# EAGLE library part STM32F070F6P6 (library Kunosheru)
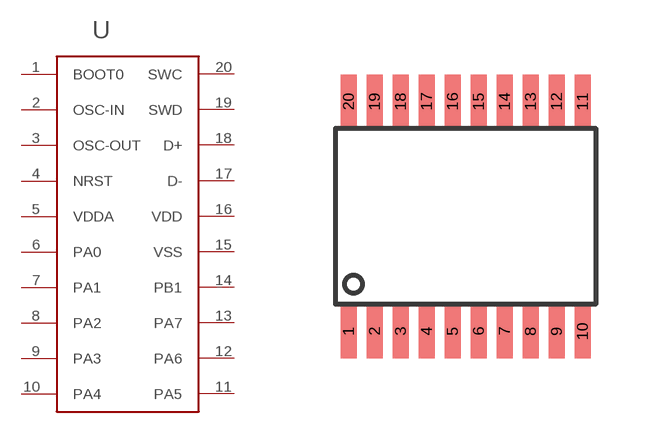
[diagram p9: symbol with the pads of TSSOP-20; footprint TSSOP-20]

Designator prefix -

## STM32F070F6P6  [TSSOP-20]
1  BOOT0
2  OSC-IN
3  OSC-OUT
4  NRST
5  VDDA
6  PA0
7  PA1
8  PA2
9  PA3
10  PA4
11  PA5
12  PA6
13  PA7
14  PB1
15  VSS
16  VDD
17  D-
18  D+
19  SWD
20  SWC

## Footprint TSSOP-20 (pad centres in mm)
smd 0.4 x 1.35: 1 -2.925,-2.875; 2 -2.275,-2.875; 3 -1.625,-2.875; 4 -0.975,-2.875; 5 -0.325,-2.875; 6 0.325,-2.875; 7 0.975,-2.875; 8 1.625,-2.875; 9 2.275,-2.875; 10 2.925,-2.875; 11 2.925,2.875; 12 2.275,2.875; 13 1.625,2.875; 14 0.975,2.875; 15 0.325,2.875; 16 -0.325,2.875; 17 -0.975,2.875; 18 -1.625,2.875; 19 -2.275,2.875; 20 -2.925,2.875